# Altium schematic symbol library RELAY.SCHLIB: 3 symbols
Pins are listed as number, name and electrical type; pins without a type are passive.

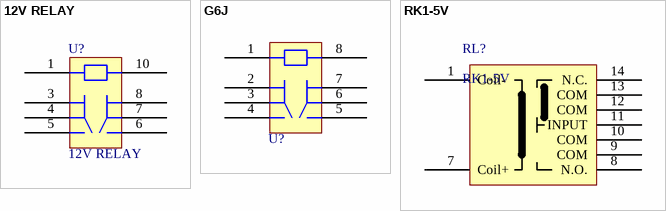
[diagram p0: symbols 12V RELAY to RK1-5V]

## 12V RELAY
designator U?
footprint 12VRELAY/W*5.08mm
pins: 1 COIL, 3 1, 4 2, 5 3, 6 4, 7 5, 8 6, 10 7

## G6J
designator U?, comment RELAY  (value not drawn)
Value: G6J
footprint AGN - duplicate
pins: 1 0, 2 1, 3 2, 4 3, 5 4, 6 5, 7 6, 8 7

## RK1-5V
designator RL?
Relay
footprint RK1-5V (Footprint not found)
pins: 1 Coil-, 7 Coil+, 8 N.O., 9 COM (power), 10 COM (power), 11 INPUT, 12 COM (power), 13 COM (power), 14 N.C.